# Altium schematic symbol library mehdi2309.SchLib: 1 symbol
Pins are listed as number, name and electrical type; pins without a type are passive.

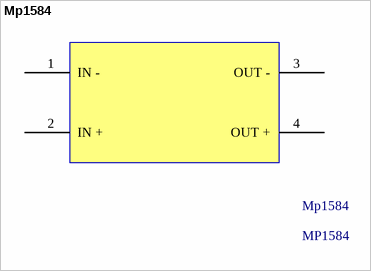
[diagram p0: symbol Mp1584]

## Mp1584
designator Mp1584, comment MP1584
footprint mp1584-1.8
pins: 1 IN -, 2 IN +, 3 OUT -, 4 OUT +